# Altium schematic symbol library SG_SCH_Switch_Mux.SchLib: 28 symbols
Pins are listed as number, name and electrical type; pins without a type are passive.

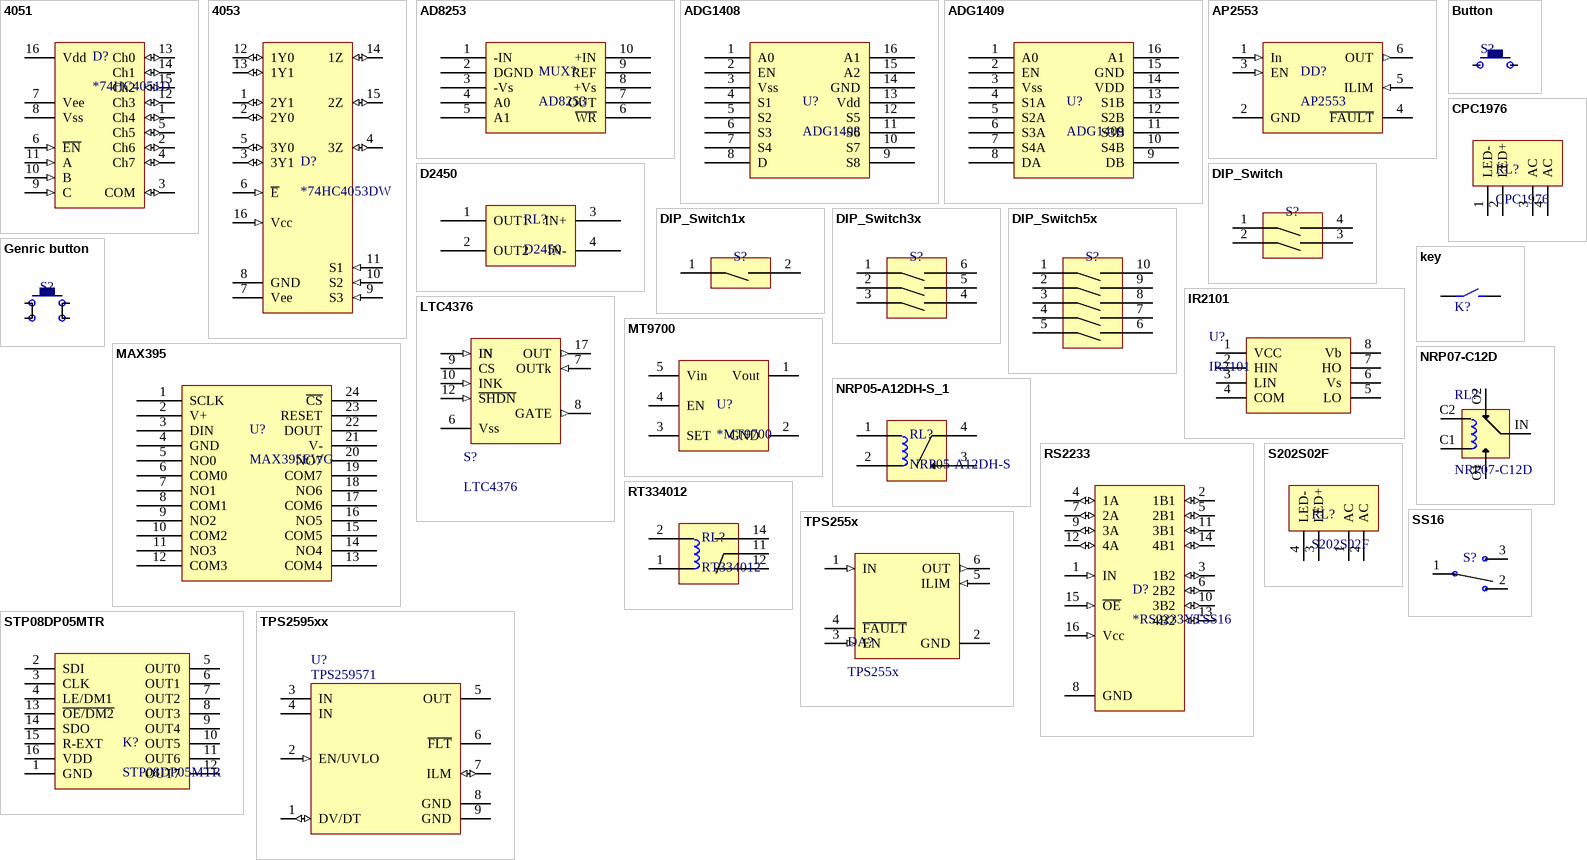
[diagram p0: symbols 4051 to TPS2595xx]

## 4051
designator D?, comment *74HC4051D
8-ch mux/demux 3..20V 10mA; OriginalSource: MiniSat; Order: *74HC4051D; DefaultOrder: *
footprint SO-16
footprint TSSOP-16
pins: 1 Ch4 (io), 2 Ch6 (io), 3 COM (io), 4 Ch7 (io), 5 Ch5 (io), 6 ~{EN} (in), 7 Vee (power), 8 Vss (power), 9 C (in), 10 B (in), 11 A (in), 12 Ch3 (io), 13 Ch0 (io), 14 Ch1 (io), 15 Ch2 (io), 16 Vdd (power)

## 4053
designator D?, comment *74HC4053DW
Triple 2-channel analog multiplexer/demultiplexer; Order: *74HC4053DW
footprint SO-16
footprint TSSOP-16
pins: 1 2Y1 (io), 2 2Y0 (io), 3 3Y1 (io), 4 3Z (io), 5 3Y0 (io), 6 ~{E} (in), 7 Vee (power), 8 GND (power), 9 S3 (in), 10 S2 (in), 11 S1 (in), 12 1Y0 (io), 13 1Y1 (io), 14 1Z (io), 15 2Z (io), 16 Vcc (in)

## AD8253
designator MUX?
Analog MUX; OriginalSource: AltTab; Order: *; DefaultOrder: *
pins: 1 -IN, 2 DGND, 3 -Vs, 4 A0, 5 A1, 6 ~{WR}, 7 OUT, 8 +Vs, 9 REF, 10 +IN

## ADG1408
designator U?
ADG1408 - 8 channel analog multiplexer; OriginalSource: AltTab; Order: *; DefaultOrder: *
footprint TSSOP16A (Shrink Small Outline; 16 Leads; Body Width 4.4 mm; Pitch 0.65 mm)
pins: 1 A0, 2 EN, 3 Vss, 4 S1, 5 S2, 6 S3, 7 S4, 8 D, 9 S8, 10 S7, 11 S6, 12 S5, 13 Vdd, 14 GND, 15 A2, 16 A1

## ADG1409
designator U?
ADG1409 - 8 channel analog multiplexer; OriginalSource: AltTab; Order: *; DefaultOrder: *
footprint TSSOP16A (Shrink Small Outline; 16 Leads; Body Width 4.4 mm; Pitch 0.65 mm)
pins: 1 A0, 2 EN, 3 Vss, 4 S1A, 5 S2A, 6 S3A, 7 S4A, 8 DA, 9 DB, 10 S4B, 11 S3B, 12 S2B, 13 S1B, 14 VDD, 15 GND, 16 A1

## AP2553
designator DD?
PRECISION ADJUSTABLE CURRENT-LIMITED POWER SWITCHES; DefaultOrder: AP2553AW6-7; OriginalSource: ZynqSat2; Order: *; ComponentLink1Description: HelpURL; ComponentLink1URL: https://ru.mouser.com/datasheet/2/115/AP255x-278026.pdf
footprint SOT26 (SOT, 6-Leads, Body 2,95x2,75mm, Pitch 0,95mm, IPC Medium Density)
pins: 1 In (in), 2 GND (power), 3 EN (in), 4 ~{FAULT} (oc), 5 ILIM (in), 6 OUT (out)

## Button
designator S?
Button; OriginalSource: AltTab; Order: *; DefaultOrder: *
pins: 1 6, 2 7, 3 6, 4 5

## CPC1976
designator RL?
2A AC relay; OriginalSource: AltTab; DefaultOrder: CPC1976; Order: *
pins: 1 LED-, 2 LED+, 3 AC, 4 AC

## D2450
designator RL?
50A relay; OriginalSource: AltTab; DefaultOrder: D2450; Order: *
pins: 1 OUT1, 2 OUT2, 3 IN+, 4 IN-

## DIP_Switch
designator S?, comment DIP Switch  (value not drawn)
Switcher; OriginalSource: AltTab; Order: *; DefaultOrder: *
footprint DIP-4-SW
pins: 1, 2, 3, 4

## DIP_Switch1x
designator S?, comment DIP Switch1x  (value not drawn)
Switcher; OriginalSource: AltTab; Order: *; DefaultOrder: *
footprint DIP-1-SW
pins: 1, 2

## DIP_Switch3x
designator S?, comment DIP Switch5x  (value not drawn)
Switcher; OriginalSource: AltTab; Order: *; DefaultOrder: *
footprint DIP-6-SW (Footprint not found)
pins: 1, 2, 3, 4, 5, 6

## DIP_Switch5x
designator S?, comment DIP Switch5x  (value not drawn)
Switcher; OriginalSource: AltTab; Order: *; DefaultOrder: *
footprint DIP-10-SW
pins: 1, 2, 3, 4, 5, 6, 7, 8, 9, 10

## Genric button
designator S?
Button; OriginalSource: AltTab; Order: *; DefaultOrder: *
footprint Button1 (Button 4 pin)
pins: 1 6, 2 5, 3 5, 4 5

## IR2101
designator U?
nMOS DRIVER; OriginalSource: AltTab; Order: *; DefaultOrder: *
footprint SO-8 (Small Outline; 8 Leads; Body Width 3.9 mm; Pitch 1.27 mm)
pins: 1 VCC, 2 HIN, 3 LIN, 4 COM, 5 LO, 6 Vs, 7 HO, 8 Vb

## key
designator K?  (value not drawn)
key; OriginalSource: AltTab; Order: *; Value: *; DefaultOrder: *
pins: 1 7, 2 8

## LTC4376
designator S?
7A Ideal Diode with integrated MOSFET; DefaultOrder: LTC4376HDHD; OriginalSource: ADCS; Order: *; ComponentLink1Description: HelpURL; ComponentLink1URL: https://ru.mouser.com/datasheet/2/609/LTC4376-1501192.pdf
footprint DFN-16_LTC4376 (DFN, 16-Leads, Body 4,00x5,00mm, Pitch 0,50mm, Thermal Pad 2,45x4,35mm, IPC Medium Density)
pins: 1 IN (in), 2 IN (in), 3 IN (in), 4 IN (in), 6 Vss (power), 7 OUTk (in), 8 GATE (out), 9 CS (power), 10 INK (in), 12 ~{SHDN} (in), 13 IN (in), 14 IN (in), 15 IN (in), 16 IN (in), 17 OUT (out)

## MAX395
designator U?, comment MAX395EWG
Analog switch; OriginalSource: AltTab; DefaultOrder: MAX395EWG; Order: *
pins: 1 SCLK, 2 V+ (power), 3 DIN, 4 GND (power), 5 NO0, 6 COM0, 7 NO1, 8 COM1, 9 NO2, 10 COM2, 11 NO3, 12 COM3, 13 COM4, 14 NO4, 15 COM5, 16 NO5, 17 COM6, 18 NO6, 19 COM7, 20 NO7, 21 V-, 22 DOUT, 23 RESET, 24 ~{CS}

## MT9700
designator U?, comment *MT9700
80mOhm adjustable fast response current-limited power distribution switch; Order: *MT9700
footprint SOT23-5
pins: 1 Vout, 2 GND, 3 SET, 4 EN, 5 Vin

## NRP05-A12DH-S_1
designator RL?, comment NRP05-A12DH-S
12V relay 5A; OriginalSource: AltTab; DefaultOrder: NRP05-A12DH-S; Order: *
pins: 1, 2, 3, 4

## NRP07-C12D
designator RL?
12V relay 5A; OriginalSource: AltTab; DefaultOrder: NRP07-C12D; Order: *
footprint NRP07-C12D
pins: C1, C2, IN, O1, O2

## RS2233
designator D?, comment *RS2233YTSS16
Wide-Bandwidth 4-Channel SPDT Video Analog Switch; Order: *RS2233YTSS16
footprint SO-16
footprint TSSOP-16
pins: 1 IN (in), 2 1B1 (io), 3 1B2 (io), 4 1A (io), 5 2B1 (io), 6 2B2 (io), 7 2A (io), 8 GND (power), 9 3A (io), 10 3B2 (io), 11 3B1 (io), 12 4A (io), 13 4B2 (io), 14 4B1 (io), 15 ~{OE} (in), 16 Vcc (in)

## RT334012
designator RL?
12V relay 16A; OriginalSource: AltTab; DefaultOrder: RT334012; HelpUrl: *; Order: *
footprint RT334012
pins: 1, 2, 11, 12, 14

## S202S02F
designator RL?
2A AC relay; OriginalSource: AltTab; DefaultOrder: S202S02F; Order: *
pins: 1 AC, 2 AC, 3 LED+, 4 LED-

## SS16
designator S?  (value not drawn)
Switcher; OriginalSource: AlkyLib; Order: *; DefaultOrder: *
footprint SS16 (Switcher 3 pin)
footprint SS16R (Switcher 3 pin)
pins: 1 5, 2 7, 3 6

## STP08DP05MTR
designator K?
8 bit 100mA key with shift register; OriginalSource: AltTab; DefaultOrder: STP08DP05MTR; Order: *
footprint TSSOP-16
footprint SO-16
pins: 1 GND, 2 SDI, 3 CLK, 4 LE/DM1, 5 OUT0, 6 OUT1, 7 OUT2, 8 OUT3, 9 OUT4, 10 OUT5, 11 OUT6, 12 OUT7, 13 ~{OE/DM2}, 14 SDO, 15 R-EXT, 16 VDD

## TPS255x
designator DA?
Precision Adjustable Current-Limited Power-Distribution Switches; Order: *TPS2553DBVR; DefaultOrder: TPS2553DBVR
footprint SOT23-6
pins: 1 IN (in), 2 GND (power), 3 EN (in), 4 ~{FAULT} (oc), 5 ILIM (in), 6 OUT (out)

## TPS2595xx
designator U?, comment TPS259571
12V eFuse with Over Voltage Protection, DSG0008A (WSON-8); DefaultOrder: TPS259571DSGR; OriginalSource: IridiumSat; ComponentLink1URL: https://sps06.itg.ti.com/sites/KMS/crossdivteams/altium/docs/ComponentDatasheets/TPS2595x_Product_Preview.pdf; ComponentLink1Description: Datasheet Link; Order: *
footprint SON-8_TPS259571DSG (Footprint not found)
pins: 1 DV/DT (io), 2 EN/UVLO (in), 3 IN (power), 4 IN (power), 5 OUT (power), 6 ~{FLT} (oc), 7 ILM (io), 8 GND (power), 9 GND (power)